# EAGLE library part DS1099 (library iceberg20)
Low-Frequenzy Oscillator 2.7V - 5.5V, 32.75 kHz Datenblatt: Link <https://www.mouser.de/datasheet/2/256/DS1099-1291827.pdf>
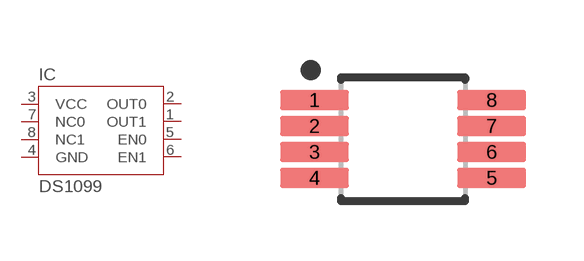
[diagram p1: symbol with the pads of USOP-8; footprint USOP-8]

Designator prefix IC

## DS1099 (BESTAND: 0; HERSTELLER: Maxim Integrated; HERSTELLER-NR: DS1099U-FF+; SUPPLIER: Mouser; SUPPLIER-NR: 700-DS1099U-FF)  [USOP-8]
1  OUT1  out
2  OUT0  out
3  VCC  pwr
4  GND  pwr
5  EN0  in
6  EN1  in
7  NC0  nc
8  NC1  nc

## Footprint USOP-8 (pad centres in mm)
8-SOP, 0.65 mm pitch, 4.91 mm span, 3.00 X 3.00 X 1.10 mm body 8-pin SOP package with 0.65 mm pitch, 4.91 mm span with body size 3.00 X 3.00 X 1.10 mm
smd 1.725 x 0.507: 1 -2.215,0.975; 2 -2.215,0.325; 3 -2.215,-0.325; 4 -2.215,-0.975; 5 2.215,-0.975; 6 2.215,-0.325; 7 2.215,0.325; 8 2.215,0.975